# Altium integrated library Analog Devices RF IF Modulators and Demodulators.IntLib: 86 symbols (part 8 of 8)
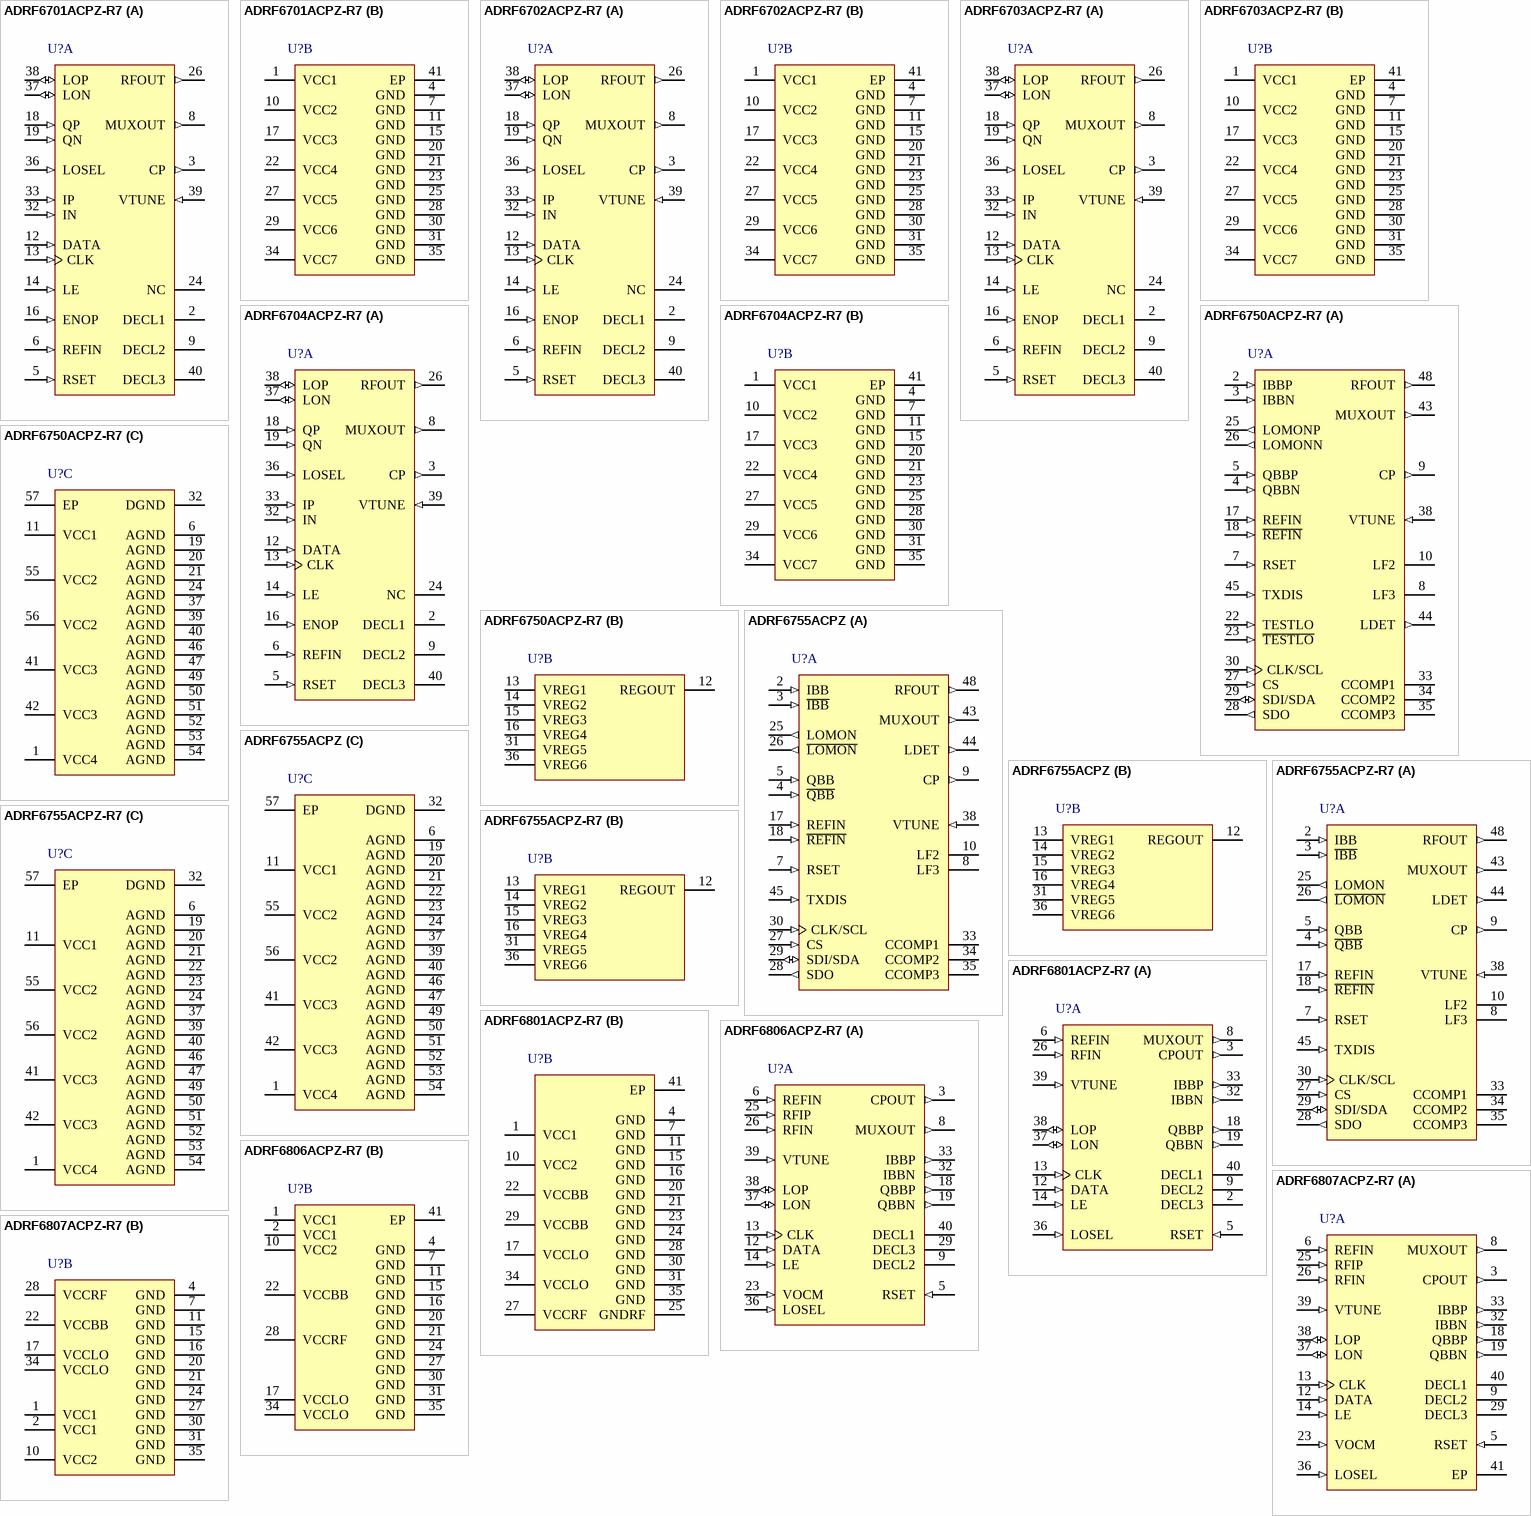
[diagram p12: symbols ADRF6701ACPZ-R7 to ADRF6807ACPZ-R7]

## ADRF6755ACPZ
designator U?
300 MHz to 2310 MHz I/Q Modulator with Integrated Fractional-N PLL and VCO, CP-56-3, Pb-Free, Tray; Min RF Frequency (MHz): 300MHz; Max RF Frequency (MHz): 2.31GHz; IQ Freq (MHz): 250MHz; IIP3 (+dBm): 23dBm; Output P1dB (dBm): 8; DatasheetVersion: RevPrC; PackageVersion: 021606-A; PackageReference: CP-56-3; PackageDescription: 56-Lead Lead Frame Chip Scale Package [LFCSP_VQ]; Code_JEDEC: MO-220-VLLD-2; ComponentLink1Description: Manufacturer URL; ComponentLink1URL: www.analog.com; ComponentLink2Description: Datasheet; ComponentLink2URL: http://www.analog.com/static/imported-files/data_sheets/ADRF6755.pdf; ComponentLink3Description: Package Specification; ComponentLink3URL: http://www.analog.com/static/imported-files/packages/3287850526613CP_56_3.pdf
footprint ADI-CP-56-3_N (QFN, 56-Leads, Body 8x8mm, Pitch 0.5mm, Thermal Pad 4.8x4.8mm, IPC Medium Density)
footprint ADI-CP-56-3_L (QFN, 56-Leads, Body 8x8mm, Pitch 0.5mm, Thermal Pad 4.8x4.8mm, IPC High Density)
footprint ADI-CP-56-3_M (QFN, 56-Leads, Body 8x8mm, Pitch 0.5mm, Thermal Pad 4.8x4.8mm, IPC Low Density)
part A pins: 2 IBB (in) "Differential In-Phase Baseband Inputs. These high impedance inputs must be dc-biased to approximately 500 mV dc and should be driven from a low impedance source. [see datasheet]", 3 ~{IBB} (in) "Differential In-Phase Baseband Inputs. These high impedance inputs must be dc-biased to approximately 500 mV dc and should be driven from a low impedance source. [see datasheet]", 4 ~{QBB} (in) "Differential Quadrature Baseband Inputs. These high impedance inputs must be dc-biased to approximately 500 mV dc and should be driven from a low impedance source. [see datasheet]", 5 QBB (in) "Differential Quadrature Baseband Inputs. These high impedance inputs must be dc-biased to approximately 500 mV dc and should be driven from a low impedance source. [see datasheet]", 7 RSET (in) "Charge Pump Current Set. Connecting a resistor between this pin and ground sets the maximum charge pump output current.", 8 LF3 "No connect pins.", 9 CP (out) "Charge Pump Output. When enabled, this output provides +/-ICP to the external loop filter, which, in turn, drives the internal VCO.", 10 LF2 "No connect pins.", 17 REFIN (in) "Reference Input. This high impedance CMOS input should be ac-coupled.", 18 ~{REFIN} (in) "Reference Input Bar. This pin should be either grounded or ac-coupled to ground.", 25 LOMON (out) "Differential Monitor Outputs. These pins provide a replica of the internal local oscillator frequency (1x LO) at four different power levels: -6 dBm, -12 dBm, -18 dBm, and -24 dBm, approximately. [see datasheet]", 26 ~{LOMON} (out) "Differential Monitor Outputs. These pins provide a replica of the internal local oscillator frequency (1x LO) at four different power levels: -6 dBm, -12 dBm, -18 dBm, and -24 dBm, approximately. [see datasheet]", 27 CS (in) "Chip Select, CMOS Input. When CS is high, the data stored in the shift registers is loaded into one of 31 latches. [see datasheet]", 28 SDO (out) "Serial Data Output for SPI Port. Register states can be read back on the SDO data output line.", 29 SDI/SDA (io) "Serial Data Input for SPI Port/Serial Data Input/Output for I2C Port. In SPI mode, this pin is a high impedance CMOS data input, and data is loaded in an 8-bit word. [see datasheet]", 30 CLK/SCL (in) "Serial Clock Input for SPI/I2C Port. This serial clock is used to clock in the serial data to the registers. This input is a high impedance CMOS input.", 33 CCOMP1 "Internal Compensation Nodes. These pins must be decoupled to ground with a 100 nF capacitor.", 34 CCOMP2 "Internal Compensation Nodes. These pins must be decoupled to ground with a 100 nF capacitor.", 35 CCOMP3 "Internal Compensation Nodes. These pins must be decoupled to ground with a 100 nF capacitor.", 38 VTUNE (in) "Control Input to the VCO. This voltage determines the output frequency and is derived from filtering the CP output voltage.", 43 MUXOUT (out) "Muxout. This output is a test output for diagnostic use only. It should be left unconnected by the customer.", 44 LDET (out) "Lock Detect. This output pin indicates the state of the PLL: a high level indicates a locked condition, whereas a low level indicates a loss of lock condition.", 45 TXDIS (in) "Output Disable. This pin can be used to disable the RF output. Connect to high logic level to disable the output. Connect to low logic level for normal operation.", 48 RFOUT (out) "RF Output. Single-ended, 50  ohm, internally biased RF output. [see datasheet]"
part B pins: 12 REGOUT (power) "3.3 V Output Supply. Drives VREG1, VREG2, VREG3, VREG4, VREG5, and VREG6.", 13 VREG1 (power) "Positive Power Supplies for PLL Synthesizer, VCO, and Serial Port. Connect these pins to REGOUT (3.3 V) and decouple them separately.", 14 VREG2 (power) "Positive Power Supplies for PLL Synthesizer, VCO, and Serial Port. Connect these pins to REGOUT (3.3 V) and decouple them separately.", 15 VREG3 (power) "Positive Power Supplies for PLL Synthesizer, VCO, and Serial Port. Connect these pins to REGOUT (3.3 V) and decouple them separately.", 16 VREG4 (power) "Positive Power Supplies for PLL Synthesizer, VCO, and Serial Port. Connect these pins to REGOUT (3.3 V) and decouple them separately.", 31 VREG5 (power) "Positive Power Supplies for PLL Synthesizer, VCO, and Serial Port. Connect these pins to REGOUT (3.3 V) and decouple them separately.", 36 VREG6 (power) "Positive Power Supplies for PLL Synthesizer, VCO, and Serial Port. Connect these pins to REGOUT (3.3 V) and decouple them separately."
part C pins: 1 VCC4 (power) "Positive Power Supplies for I/Q Modulator. Apply a 5 V power supply to VCC1, which should be decoupled with power supply decoupling capacitors. [see datasheet]", 6 AGND (power) "Analog Ground. Connect to a low impedance ground plane.", 11 VCC1 (power) "Positive Power Supplies for I/Q Modulator. Apply a 5 V power supply to VCC1, which should be decoupled with power supply decoupling capacitors. [see datasheet]", 19 AGND (power) "Analog Ground. Connect to a low impedance ground plane.", 20 AGND (power) "Analog Ground. Connect to a low impedance ground plane.", 21 AGND (power) "Analog Ground. Connect to a low impedance ground plane.", 22 AGND (power) "Analog Ground. Connect to a low impedance ground plane.", 23 AGND (power) "Analog Ground. Connect to a low impedance ground plane.", 24 AGND (power) "Analog Ground. Connect to a low impedance ground plane.", 32 DGND (power) "Digital Ground. Connect to the same low impedance ground plane as the AGND pins.", 37 AGND (power) "Analog Ground. Connect to a low impedance ground plane.", 39 AGND (power) "Analog Ground. Connect to a low impedance ground plane.", 40 AGND (power) "Analog Ground. Connect to a low impedance ground plane.", 41 VCC3 (power) "Positive Power Supplies for I/Q Modulator. Apply a 5 V power supply to VCC1, which should be decoupled with power supply decoupling capacitors. [see datasheet]", 42 VCC3 (power) "Positive Power Supplies for I/Q Modulator. Apply a 5 V power supply to VCC1, which should be decoupled with power supply decoupling capacitors. [see datasheet]", 46 AGND (power) "Analog Ground. Connect to a low impedance ground plane.", 47 AGND (power) "Analog Ground. Connect to a low impedance ground plane.", 49 AGND (power) "Analog Ground. Connect to a low impedance ground plane.", 50 AGND (power) "Analog Ground. Connect to a low impedance ground plane.", 51 AGND (power) "Analog Ground. Connect to a low impedance ground plane.", 52 AGND (power) "Analog Ground. Connect to a low impedance ground plane.", 53 AGND (power) "Analog Ground. Connect to a low impedance ground plane.", 54 AGND (power) "Analog Ground. Connect to a low impedance ground plane.", 55 VCC2 (power) "Positive Power Supplies for I/Q Modulator. Apply a 5 V power supply to VCC1, which should be decoupled with power supply decoupling capacitors. [see datasheet]", 56 VCC2 (power) "Positive Power Supplies for I/Q Modulator. Apply a 5 V power supply to VCC1, which should be decoupled with power supply decoupling capacitors. [see datasheet]", 57 EP (power) "Exposed Paddle. Connect to ground plane via a low impedance path."

## ADRF6755ACPZ-R7
designator U?
300 MHz to 2310 MHz I/Q Modulator with Integrated Fractional-N PLL and VCO, CP-56-3, Pb-Free, Reel; Min RF Frequency (MHz): 300MHz; Max RF Frequency (MHz): 2.31GHz; IQ Freq (MHz): 250MHz; IIP3 (+dBm): 23dBm; Output P1dB (dBm): 8; DatasheetVersion: RevPrC; PackageVersion: 021606-A; PackageReference: CP-56-3; PackageDescription: 56-Lead Lead Frame Chip Scale Package [LFCSP_VQ]; Code_JEDEC: MO-220-VLLD-2; ComponentLink1Description: Manufacturer URL; ComponentLink1URL: www.analog.com; ComponentLink2Description: Datasheet; ComponentLink2URL: http://www.analog.com/static/imported-files/data_sheets/ADRF6755.pdf; ComponentLink3Description: Package Specification; ComponentLink3URL: http://www.analog.com/static/imported-files/packages/3287850526613CP_56_3.pdf
footprint ADI-CP-56-3_N (QFN, 56-Leads, Body 8x8mm, Pitch 0.5mm, Thermal Pad 4.8x4.8mm, IPC Medium Density)
footprint ADI-CP-56-3_L (QFN, 56-Leads, Body 8x8mm, Pitch 0.5mm, Thermal Pad 4.8x4.8mm, IPC High Density)
footprint ADI-CP-56-3_M (QFN, 56-Leads, Body 8x8mm, Pitch 0.5mm, Thermal Pad 4.8x4.8mm, IPC Low Density)
part A pins: 2 IBB (in) "Differential In-Phase Baseband Inputs. These high impedance inputs must be dc-biased to approximately 500 mV dc and should be driven from a low impedance source. [see datasheet]", 3 ~{IBB} (in) "Differential In-Phase Baseband Inputs. These high impedance inputs must be dc-biased to approximately 500 mV dc and should be driven from a low impedance source. [see datasheet]", 4 ~{QBB} (in) "Differential Quadrature Baseband Inputs. These high impedance inputs must be dc-biased to approximately 500 mV dc and should be driven from a low impedance source. [see datasheet]", 5 QBB (in) "Differential Quadrature Baseband Inputs. These high impedance inputs must be dc-biased to approximately 500 mV dc and should be driven from a low impedance source. [see datasheet]", 7 RSET (in) "Charge Pump Current Set. Connecting a resistor between this pin and ground sets the maximum charge pump output current.", 8 LF3 "No connect pins.", 9 CP (out) "Charge Pump Output. When enabled, this output provides +/-ICP to the external loop filter, which, in turn, drives the internal VCO.", 10 LF2 "No connect pins.", 17 REFIN (in) "Reference Input. This high impedance CMOS input should be ac-coupled.", 18 ~{REFIN} (in) "Reference Input Bar. This pin should be either grounded or ac-coupled to ground.", 25 LOMON (out) "Differential Monitor Outputs. These pins provide a replica of the internal local oscillator frequency (1x LO) at four different power levels: -6 dBm, -12 dBm, -18 dBm, and -24 dBm, approximately. [see datasheet]", 26 ~{LOMON} (out) "Differential Monitor Outputs. These pins provide a replica of the internal local oscillator frequency (1x LO) at four different power levels: -6 dBm, -12 dBm, -18 dBm, and -24 dBm, approximately. [see datasheet]", 27 CS (in) "Chip Select, CMOS Input. When CS is high, the data stored in the shift registers is loaded into one of 31 latches. [see datasheet]", 28 SDO (out) "Serial Data Output for SPI Port. Register states can be read back on the SDO data output line.", 29 SDI/SDA (io) "Serial Data Input for SPI Port/Serial Data Input/Output for I2C Port. In SPI mode, this pin is a high impedance CMOS data input, and data is loaded in an 8-bit word. [see datasheet]", 30 CLK/SCL (in) "Serial Clock Input for SPI/I2C Port. This serial clock is used to clock in the serial data to the registers. This input is a high impedance CMOS input.", 33 CCOMP1 "Internal Compensation Nodes. These pins must be decoupled to ground with a 100 nF capacitor.", 34 CCOMP2 "Internal Compensation Nodes. These pins must be decoupled to ground with a 100 nF capacitor.", 35 CCOMP3 "Internal Compensation Nodes. These pins must be decoupled to ground with a 100 nF capacitor.", 38 VTUNE (in) "Control Input to the VCO. This voltage determines the output frequency and is derived from filtering the CP output voltage.", 43 MUXOUT (out) "Muxout. This output is a test output for diagnostic use only. It should be left unconnected by the customer.", 44 LDET (out) "Lock Detect. This output pin indicates the state of the PLL: a high level indicates a locked condition, whereas a low level indicates a loss of lock condition.", 45 TXDIS (in) "Output Disable. This pin can be used to disable the RF output. Connect to high logic level to disable the output. Connect to low logic level for normal operation.", 48 RFOUT (out) "RF Output. Single-ended, 50  ohm, internally biased RF output. [see datasheet]"
part B pins: 12 REGOUT (power) "3.3 V Output Supply. Drives VREG1, VREG2, VREG3, VREG4, VREG5, and VREG6.", 13 VREG1 (power) "Positive Power Supplies for PLL Synthesizer, VCO, and Serial Port. Connect these pins to REGOUT (3.3 V) and decouple them separately.", 14 VREG2 (power) "Positive Power Supplies for PLL Synthesizer, VCO, and Serial Port. Connect these pins to REGOUT (3.3 V) and decouple them separately.", 15 VREG3 (power) "Positive Power Supplies for PLL Synthesizer, VCO, and Serial Port. Connect these pins to REGOUT (3.3 V) and decouple them separately.", 16 VREG4 (power) "Positive Power Supplies for PLL Synthesizer, VCO, and Serial Port. Connect these pins to REGOUT (3.3 V) and decouple them separately.", 31 VREG5 (power) "Positive Power Supplies for PLL Synthesizer, VCO, and Serial Port. Connect these pins to REGOUT (3.3 V) and decouple them separately.", 36 VREG6 (power) "Positive Power Supplies for PLL Synthesizer, VCO, and Serial Port. Connect these pins to REGOUT (3.3 V) and decouple them separately."
part C pins: 1 VCC4 (power) "Positive Power Supplies for I/Q Modulator. Apply a 5 V power supply to VCC1, which should be decoupled with power supply decoupling capacitors. [see datasheet]", 6 AGND (power) "Analog Ground. Connect to a low impedance ground plane.", 11 VCC1 (power) "Positive Power Supplies for I/Q Modulator. Apply a 5 V power supply to VCC1, which should be decoupled with power supply decoupling capacitors. [see datasheet]", 19 AGND (power) "Analog Ground. Connect to a low impedance ground plane.", 20 AGND (power) "Analog Ground. Connect to a low impedance ground plane.", 21 AGND (power) "Analog Ground. Connect to a low impedance ground plane.", 22 AGND (power) "Analog Ground. Connect to a low impedance ground plane.", 23 AGND (power) "Analog Ground. Connect to a low impedance ground plane.", 24 AGND (power) "Analog Ground. Connect to a low impedance ground plane.", 32 DGND (power) "Digital Ground. Connect to the same low impedance ground plane as the AGND pins.", 37 AGND (power) "Analog Ground. Connect to a low impedance ground plane.", 39 AGND (power) "Analog Ground. Connect to a low impedance ground plane.", 40 AGND (power) "Analog Ground. Connect to a low impedance ground plane.", 41 VCC3 (power) "Positive Power Supplies for I/Q Modulator. Apply a 5 V power supply to VCC1, which should be decoupled with power supply decoupling capacitors. [see datasheet]", 42 VCC3 (power) "Positive Power Supplies for I/Q Modulator. Apply a 5 V power supply to VCC1, which should be decoupled with power supply decoupling capacitors. [see datasheet]", 46 AGND (power) "Analog Ground. Connect to a low impedance ground plane.", 47 AGND (power) "Analog Ground. Connect to a low impedance ground plane.", 49 AGND (power) "Analog Ground. Connect to a low impedance ground plane.", 50 AGND (power) "Analog Ground. Connect to a low impedance ground plane.", 51 AGND (power) "Analog Ground. Connect to a low impedance ground plane.", 52 AGND (power) "Analog Ground. Connect to a low impedance ground plane.", 53 AGND (power) "Analog Ground. Connect to a low impedance ground plane.", 54 AGND (power) "Analog Ground. Connect to a low impedance ground plane.", 55 VCC2 (power) "Positive Power Supplies for I/Q Modulator. Apply a 5 V power supply to VCC1, which should be decoupled with power supply decoupling capacitors. [see datasheet]", 56 VCC2 (power) "Positive Power Supplies for I/Q Modulator. Apply a 5 V power supply to VCC1, which should be decoupled with power supply decoupling capacitors. [see datasheet]", 57 EP (power) "Exposed Paddle. Connect to ground plane via a low impedance path."

## ADRF6801ACPZ-R7
designator U?
750 MHz to 1150 MHz Quadrature Demodulator with Fractional-N PLL and VCO, CP-40-1, Pb-Free, 750 Reel; Min RF Frequency (MHz): 750MHz; Max RF Frequency (MHz): 1.15GHz; IQ Freq (MHz): 275MHz; Phase Error (deg): 0.3Deg; Amplitude Error (dB): 50mdB; IIP3 (+dBm): 25dBm; Output P1dB (dBm): 12.5; DatasheetVersion: Rev. 0; PackageVersion: Oct-2006; PackageReference: CP-40-1; PackageDescription: 40-Lead Lead Frame Chip Scale Package [LFCSP_VQ]; Code_JEDEC: MO-220-VJJD-2; ComponentLink1Description: Manufacturer URL; ComponentLink1URL: www.analog.com; ComponentLink2Description: Datasheet; ComponentLink2URL: http://www.analog.com/static/imported-files/data_sheets/ADRF6801.pdf; ComponentLink3Description: Package Specification; ComponentLink3URL: http://www.analog.com/static/imported-files/packages/PKG_PDF/LFCSP(CP)/CP_40_1.pdf
footprint ADI-CP-40-1_N (QFN, 40-Leads, Body 6x6mm, Pitch 0.5mm, Thermal Pad 4.3x4.3mm, IPC Medium Density)
footprint ADI-CP-40-1_L (QFN, 40-Leads, Body 6x6mm, Pitch 0.5mm, Thermal Pad 4.3x4.3mm, IPC High Density)
footprint ADI-CP-40-1_M (QFN, 40-Leads, Body 6x6mm, Pitch 0.5mm, Thermal Pad 4.3x4.3mm, IPC Low Density)
part A pins: 2 DECL3 "Decoupling Node for the 3.3 V LDO. Connect a 0.1 uF capacitor between this pin and ground", 3 CPOUT (out) "Charge Pump Output Pin. Connect this pin to VTUNE through the loop filter", 5 RSET (in) "Charge Pump Current. The nominal charge pump current can be set to 250 uA, 500 uA, 750 uA, or 1 mA using DB10 and DB11 of Register 4 and by setting DB18 to 0 (internal reference current)", 6 REFIN (in) "Reference Input. Nominal input level is 1 V p-p. Input range is 10 MHz to 160 MHz", 8 MUXOUT (out) "Multiplexer Output. This output can be programmed to provide the reference output signal or the lock detect signal. The output is selected by programming the appropriate register", 9 DECL2 "Decoupling Node for 2.5 V LDO. Connect a 0.1 uF capacitor between this pin and ground", 12 DATA (in) "Serial Data Input. The serial data is loaded MSB first with the three LSBs being the control bits", 13 CLK (in) "Serial Clock Input. This serial clock is used to clock in the serial data to the registers. The data is latched into the 24-bit shift register on the CLK rising edge. [see datasheet]", 14 LE (in) "Load Enable.", 18 QBBP (out) "Demodulator Q-Channel Differential Baseband Outputs; Differential Output Impedance of 24 O", 19 QBBN (out) "Demodulator Q-Channel Differential Baseband Outputs; Differential Output Impedance of 24 O", 26 RFIN (in) "Single-Ended, Ground Referenced 50 O, RF Input", 32 IBBN (out) "Demodulator I-Channel Differential Baseband Outputs; Differential Output Impedance of 24 O", 33 IBBP (out) "Demodulator I-Channel Differential Baseband Outputs; Differential Output Impedance of 24 O", 36 LOSEL (in) "LO Select. Connect this pin to ground for the simplest operation and to completely control the LO path and input/output direction from the register SPI programming", 37 LON (io) "Local Oscillator Input/Output. When these pins are used as output pins, a differential frequency divided version of the internal VCO is available on these pins. [see datasheet]", 38 LOP (io) "Local Oscillator Input/Output. When these pins are used as output pins, a differential frequency divided version of the internal VCO is available on these pins. [see datasheet]", 39 VTUNE (in) "VCO Control Voltage Input. This pin is driven by the output of the loop filter. The nominal input voltage range on this pin is 1.0 V to 2.8 V", 40 DECL1 "Connect a 10 uF capacitor between this pin and ground as close to the device as possible because this pin serves as the VCO supply and loop filter reference"
part B pins: 1 VCC1 (power) "The 5 V Power Supply Pin for VCO and PLL (VCC1)", 4 GND (power) "Connect these pins to a low impedance ground plane", 7 GND (power) "Connect these pins to a low impedance ground plane", 10 VCC2 (power) "The 5 V power supply pin for the 2.5 V LDO", 11 GND (power) "Connect these pins to a low impedance ground plane", 15 GND (power) "Connect these pins to a low impedance ground plane", 16 GND (power) "Connect these pins to a low impedance ground plane", 17 VCCLO (power) "The 5 V Power Supply for the LO Path Blocks", 20 GND (power) "Connect these pins to a low impedance ground plane", 21 GND (power) "Connect these pins to a low impedance ground plane", 22 VCCBB (power) "The 5 V Power Supply for the Baseband Output Section of the Demodulator Blocks", 23 GND (power) "Connect these pins to a low impedance ground plane", 24 GND (power) "Connect these pins to a low impedance ground plane", 25 GNDRF (power) "Ground Return for RF Input Balun", 27 VCCRF (power) "The 5 V Power Supply for the RF Input Section of the Demodulator Blocks", 28 GND (power) "Connect these pins to a low impedance ground plane", 29 VCCBB (power) "The 5 V Power Supply for the Baseband Output Section of the Demodulator Blocks", 30 GND (power) "Connect these pins to a low impedance ground plane", 31 GND (power) "Connect these pins to a low impedance ground plane", 34 VCCLO (power) "The 5 V Power Supply for the LO Path Blocks", 35 GND (power) "Connect these pins to a low impedance ground plane", 41 EP (power) "Exposed Paddle. The exposed paddle should be soldered to a low impedance ground plane"

## ADRF6806ACPZ-R7
designator U?
50 MHz to 525 MHz Quadrature Demodulator with Fractional-N PLL and VCO, CP-40-4, Pb-Free, 750 Reel; Min RF Frequency (MHz): 50MHz; Max RF Frequency (MHz): 525MHz; IQ Freq (MHz): 135MHz; Phase Error (deg): 0.5Deg; Amplitude Error (dB): 100mdB; IIP3 (+dBm): 28.5dBm; DatasheetVersion: Rev. A; PackageVersion: 080107-A; PackageReference: CP-40-4; PackageDescription: 40-Lead Lead Frame Chip Scale Package [LFCSP_VQ]; Code_JEDEC: MO-220-VJJD-2; ComponentLink1Description: Manufacturer URL; ComponentLink1URL: www.analog.com; ComponentLink2Description: Datasheet; ComponentLink2URL: http://www.analog.com/static/imported-files/data_sheets/ADRF6806.pdf; ComponentLink3Description: Package Specification; ComponentLink3URL: http://www.analog.com/static/imported-files/packages/5297332792203067151CP_40_4.pdf
footprint ADI-CP-40-4_N (QFN, 40-Leads, Body 6x6mm, Pitch 0.5mm, Thermal Pad 4.3x4.3mm, IPC Medium Density)
footprint ADI-CP-40-4_L (QFN, 40-Leads, Body 6x6mm, Pitch 0.5mm, Thermal Pad 4.3x4.3mm, IPC High Density)
footprint ADI-CP-40-4_M (QFN, 40-Leads, Body 6x6mm, Pitch 0.5mm, Thermal Pad 4.3x4.3mm, IPC Low Density)
part A pins: 3 CPOUT (out) "Charge Pump Output Pin. Connect this pin to VTUNE through the loop filter", 5 RSET (in) "Charge Pump Current. The nominal charge pump current can be set to 250 uA, 500 uA, 750 uA, or 1 mA using DB10 and DB11 of Register 4 and by setting DB18 to 0 (internal reference current)", 6 REFIN (in) "Reference Input. Nominal input level is 1 V p-p. Input range is 9 MHz to 160 MHz", 8 MUXOUT (out) "Multiplexer Output. This output can be programmed to provide the reference output signal or the lock detect signal. The output is selected by programming the appropriate register", 9 DECL2 "Connect a 0.1 uF capacitor between this pin and ground.", 12 DATA (in) "Serial Data Input. The serial data is loaded MSB first with the three LSBs being the control bits", 13 CLK (in) "Serial Clock Input. This serial clock is used to clock in the serial data to the registers. The data is latched into the 24-bit shift register on the CLK rising edge. [see datasheet]", 14 LE (in) "Load Enable.", 18 QBBP (out) "Demodulator Q-Channel Differential Baseband Outputs (Differential Output Impedance of 28 O)", 19 QBBN (out) "Demodulator Q-Channel Differential Baseband Outputs (Differential Output Impedance of 28 O)", 23 VOCM (in) "Baseband Common-Mode Reference Input; 1.65 V nominal. It sets the dc common-mode level of the IBBx and QBBx outputs.", 25 RFIP (in) "Differential 100 O, Internally Biased RF Inputs. These pins must be ac-coupled", 26 RFIN (in) "Differential 100 O, Internally Biased RF Inputs. These pins must be ac-coupled", 29 DECL3 "Connect a 2.2 uF capacitor between this pin and ground", 32 IBBN (out) "Demodulator I-Channel Differential Baseband Outputs (Differential Output Impedance of 28 O)", 33 IBBP (out) "Demodulator I-Channel Differential Baseband Outputs (Differential Output Impedance of 28 O)", 36 LOSEL (in) "LO Select. Connect this pin to ground for the simplest operation and to completely control the LO path and input/output direction from the register SPI programming", 37 LON (io) "Local Oscillator Input/Output. When these pins are used as output pins, a differential frequency divided version of the internal VCO is available on these pins. [see datasheet]", 38 LOP (io) "Local Oscillator Input/Output. When these pins are used as output pins, a differential frequency divided version of the internal VCO is available on these pins. [see datasheet]", 39 VTUNE (in) "VCO Control Voltage Input. This pin is driven by the output of the loop filter. The nominal input voltage range on this pin is 1.0 V to 2.8 V", 40 DECL1 "Connect a 10 uF capacitor between this pin and ground as close to the device as possible because this pin serves as the VCO supply and loop filter reference"
part B pins: 1 VCC1 (power) "The 3.3 V power supply for VCO and PLL", 2 VCC1 (power) "The 3.3 V power supply for VCO and PLL", 4 GND (power) "Connect these pins to a low impedance ground plane", 7 GND (power) "Connect these pins to a low impedance ground plane", 10 VCC2 (power) "The 3.3 V power supply for the 2.5 V LDO", 11 GND (power) "Connect these pins to a low impedance ground plane", 15 GND (power) "Connect these pins to a low impedance ground plane", 16 GND (power) "Connect these pins to a low impedance ground plane", 17 VCCLO (power) "The 3.3 V power supply for the LO path blocks", 20 GND (power) "Connect these pins to a low impedance ground plane", 21 GND (power) "Connect these pins to a low impedance ground plane", 22 VCCBB (power) "The 5 V power supply for the demodulator blocks", 24 GND (power) "Connect these pins to a low impedance ground plane", 27 GND (power) "Connect these pins to a low impedance ground plane", 28 VCCRF (power) "The 5 V power supply for the demodulator blocks", 30 GND (power) "Connect these pins to a low impedance ground plane", 31 GND (power) "Connect these pins to a low impedance ground plane", 34 VCCLO (power) "The 3.3 V power supply for the LO path blocks", 35 GND (power) "Connect these pins to a low impedance ground plane", 41 EP (power) "Exposed Paddle. The exposed paddle should be soldered to a low impedance ground plane"

## ADRF6807ACPZ-R7
designator U?
700 MHz to 1050 MHz Quadrature Demodulator with Fractional-N PLL and VCO, CP-40-4, Pb-Free, 750 Reel; Min RF Frequency (MHz): 700MHz; Max RF Frequency (MHz): 1.05GHz; IQ Freq (MHz): 170MHz; Phase Error (deg): 0.5Deg; Amplitude Error (dB): 100mdB; IIP3 (+dBm): 26.7dBm; DatasheetVersion: Rev. A; PackageVersion: 080107-A; PackageReference: CP-40-4; PackageDescription: 40-Lead Lead Frame Chip Scale Package [LFCSP_VQ]; Code_JEDEC: MO-220-VJJD-2; ComponentLink1Description: Manufacturer URL; ComponentLink1URL: www.analog.com; ComponentLink2Description: Datasheet; ComponentLink2URL: http://www.analog.com/static/imported-files/data_sheets/ADRF6807.pdf; ComponentLink3Description: Package Specification; ComponentLink3URL: http://www.analog.com/static/imported-files/packages/5297332792203067151CP_40_4.pdf
footprint ADI-CP-40-4_N (QFN, 40-Leads, Body 6x6mm, Pitch 0.5mm, Thermal Pad 4.3x4.3mm, IPC Medium Density)
footprint ADI-CP-40-4_L (QFN, 40-Leads, Body 6x6mm, Pitch 0.5mm, Thermal Pad 4.3x4.3mm, IPC High Density)
footprint ADI-CP-40-4_M (QFN, 40-Leads, Body 6x6mm, Pitch 0.5mm, Thermal Pad 4.3x4.3mm, IPC Low Density)
part A pins: 3 CPOUT (out) "Charge Pump Output Pin. Connect this pin to VTUNE through the loop filter.", 5 RSET (in) "Charge Pump Current. The nominal charge pump current can be set to 250 uA, 500 uA, 750 uA, or 1 mA using DB10 and DB11 of Register 4 and by setting DB18 to 0 (internal reference current).", 6 REFIN (in) "Reference Input. Nominal input level is 1 V p-p. Input range is 9 MHz to 160 MHz.", 8 MUXOUT (out) "Multiplexer Output. This output can be programmed to provide the reference output signal or the lock  detect signal. The output is selected by programming the appropriate register.", 9 DECL2 "Connect a 0.1 uF capacitor between this pin and ground.", 12 DATA (in) "Serial Data Input. The serial data is loaded MSB first with the three LSBs being the control bits.", 13 CLK (in) "Serial Clock Input. This serial clock is used to clock in the serial data to the registers.", 14 LE (in) "#VALUE!", 18 QBBP (out) "Demodulator Q-Channel Differential Baseband Outputs (Differential Output Impedance of 28 O).", 19 QBBN (out) "Demodulator Q-Channel Differential Baseband Outputs (Differential Output Impedance of 28 O).", 23 VOCM (in) "Baseband Common-Mode Reference Input; 1.65 V Nominal. It sets the dc common-mode level of the IBBx and QBBx outputs.", 25 RFIP (in) "Differential 100 ohm, Internally Biased RF Inputs. These pins must be ac-coupled.", 26 RFIN (in) "Differential 100 ohm, Internally Biased RF Inputs. These pins must be ac-coupled.", 29 DECL3 "Connect a 2.2 uF capacitor between this pin and ground.", 32 IBBN (out) "Demodulator I-Channel Differential Baseband Outputs (Differential Output Impedance of 28 O).", 33 IBBP (out) "Demodulator I-Channel Differential Baseband Outputs (Differential Output Impedance of 28 O).", 36 LOSEL (in) "LO Select. Connect this pin to ground for the simplest operation and to completely control the LO path and input/output direction from the register programming of the SPI.?see  datasheet?", 37 LON (io) "Local Oscillator Input/Output (Differential Output Impedance of 28 O).?see  datasheet?", 38 LOP (io) "Local Oscillator Input/Output (Differential Output Impedance of 28 O).?see  datasheet?", 39 VTUNE (in) "VCO Control Voltage Input. This pin is driven by the output of the loop filter. The nominal input voltage range on this pin is 1.0 V to 2.8 V", 40 DECL1 "Connect a 10 uF capacitor between this pin and ground as close to the device as possible because this pin serves as the VCO supply and loop filter reference.", 41 EP (power) "Exposed Paddle. The exposed paddle should be soldered to a low impedance ground plane."
part B pins: 1 VCC1 (power) "The 3.3 V Power Supply for VCO and PLL.", 2 VCC1 (power) "The 3.3 V Power Supply for VCO and PLL.", 4 GND (power) "Ground. Connect these pins to a low impedance ground plane.", 7 GND (power) "Ground. Connect these pins to a low impedance ground plane.", 10 VCC2 (power) "3.3 V Power Supply for 2.5 V LDO.", 11 GND (power) "Ground. Connect these pins to a low impedance ground plane.", 15 GND (power) "Ground. Connect these pins to a low impedance ground plane.", 16 GND (power) "Ground. Connect these pins to a low impedance ground plane.", 17 VCCLO (power) "3.3 V Power Supply for LO Path Blocks.", 20 GND (power) "Ground. Connect these pins to a low impedance ground plane.", 21 GND (power) "Ground. Connect these pins to a low impedance ground plane.", 22 VCCBB (power) "5 V Power Supply for Demodulator Blocks.", 24 GND (power) "Ground. Connect these pins to a low impedance ground plane.", 27 GND (power) "Ground. Connect these pins to a low impedance ground plane.", 28 VCCRF (power) "5 V Power Supply for Demodulator Blocks.", 30 GND (power) "Ground. Connect these pins to a low impedance ground plane.", 31 GND (power) "Ground. Connect these pins to a low impedance ground plane.", 34 VCCLO (power) "3.3 V Power Supply for LO Path Blocks.", 35 GND (power) "Ground. Connect these pins to a low impedance ground plane."

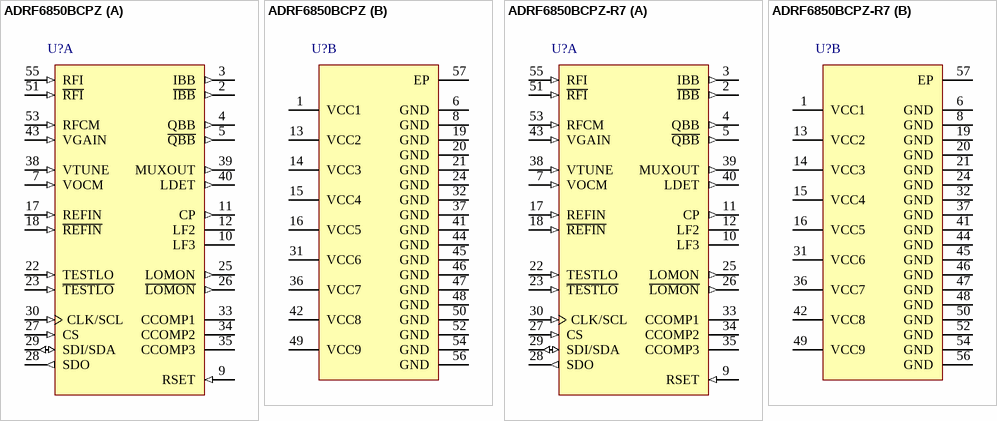
[diagram p5: symbols ADRF6850BCPZ to ADRF6850BCPZ-R7]

## ADRF6850BCPZ
designator U?
100 MHz to 1000 MHz Integrated Broadband Receiver, CP-56-5, Pb-Free, 260 Tray; IQ Freq (MHz): 250MHz; Phase Error (deg): 0.25Deg; Amplitude Error (dB): 100mdB; VGA Range (dB): 60dB; IIP3 (+dBm): 22.5dBm; Output P1dB (dBm): 12; DatasheetVersion: Rev. 0; PackageVersion: 072709-A; PackageReference: CP-56-5; PackageDescription: 56-Lead Lead Frame Chip Scale Package [LFCSP_VQ]; Code_JEDEC: MO-220-VLLD-2; ComponentLink1Description: Manufacturer URL; ComponentLink1URL: www.analog.com; ComponentLink2Description: Datasheet; ComponentLink2URL: http://www.analog.com/static/imported-files/data_sheets/ADRF6850.pdf; ComponentLink3Description: Package Specification; ComponentLink3URL: http://www.analog.com/static/imported-files/packages/PKG_PDF/LFCSP(CP)/CP-56/CP_56_5.pdf
footprint ADI-CP-56-5_N (QFN, 56-Leads, Body 8x8mm, Pitch 0.5mm, Thermal Pad 5x5mm, IPC Medium Density)
footprint ADI-CP-56-5_L (QFN, 56-Leads, Body 8x8mm, Pitch 0.5mm, Thermal Pad 5x5mm, IPC High Density)
footprint ADI-CP-56-5_M (QFN, 56-Leads, Body 8x8mm, Pitch 0.5mm, Thermal Pad 5x5mm, IPC Low Density)
part A pins: 2 ~{IBB} (out) "Differential In-Phase and Quadrature Baseband Outputs. These low impedance outputs can drive 2.5 V p-p into 100 O differential loads", 3 IBB (out) "Differential In-Phase and Quadrature Baseband Outputs. These low impedance outputs can drive 2.5 V p-p into 100 O differential loads", 4 QBB (out) "Differential In-Phase and Quadrature Baseband Outputs. These low impedance outputs can drive 2.5 V p-p into 100 O differential loads", 5 ~{QBB} (out) "Differential In-Phase and Quadrature Baseband Outputs. These low impedance outputs can drive 2.5 V p-p into 100 O differential loads", 7 VOCM (in) "Baseband Common-Mode Voltage Input. When ac coupling the baseband output pins, ground VOCM. There is an option to apply an external voltage, which may be relevant when dc coupling the baseband output pins. [see datasheet]", 9 RSET (in) "Charge Pump Current Set. Connecting a resistor between this pin and ground sets the maximum charge pump output current", 10 LF3 "Extra Loop Filter Pins for Fastlock. Use these pins to reduce lock time", 11 CP (out) "Charge Pump Output. When enabled, this provides +/-ICP to the external loop filter, which in turn, drives the internal VCO", 12 LF2 "Extra Loop Filter Pins for Fastlock. Use these pins to reduce lock time", 17 REFIN (in) "Reference Input. AC couple this high impedance CMOS input", 18 ~{REFIN} (in) "Reference Input Bar. Ground this pin", 22 TESTLO (in) "Differential Test Inputs. For internal use only. These pins should be grounded", 23 ~{TESTLO} (in) "Differential Test Inputs. For internal use only. These pins should be grounded", 25 LOMON (out) "Differential Monitor Outputs. These pins provide a replica of the internal local oscillator frequency (1x LO) at four different power levels: -6 dBm, -12 dBm, -18 dBm, and -24 dBm, approximately. [see datasheet]", 26 ~{LOMON} (out) "Differential Monitor Outputs. These pins provide a replica of the internal local oscillator frequency (1x LO) at four different power levels: -6 dBm, -12 dBm, -18 dBm, and -24 dBm, approximately. [see datasheet]", 27 CS (in) "Chip Select. CMOS input. When CS is high, the data stored in the shift registers is loaded into one of the 31 registers. [see datasheet]", 28 SDO (out) "Serial Data Output for SPI Port. Register states can be read back on the SDO data output line in an 8-bit word", 29 SDI/SDA (io) "Serial Data Input for SPI Port, Serial Data Input/Output for I2C Port. In SPI mode. This input is a high impedance CMOS data input, and data is loaded in an 8-bit word. [see datasheet]", 30 CLK/SCL (in) "Serial Clock Input for SPI/I2C Port. This serial clock is used to clock in the serial data to the registers. This input is a high impedance CMOS input", 33 CCOMP1 "Internal Compensation Node. This pin must be decoupled to ground with a 100 nF capacitor", 34 CCOMP2 "Internal Compensation Node. This pin must be decoupled to ground with a 100 nF capacitor", 35 CCOMP3 "Internal Compensation Node. This pin must be decoupled to ground with a 100 nF capacitor", 38 VTUNE (in) "Control Input to the VCO. This voltage determines the output frequency and is derived from filtering the CP output voltage", 39 MUXOUT (out) "Muxout. This output is a test output for diagnostic use only. Allow this pin to remain open circuit", 40 LDET (out) "Lock Detect. This pin provides an active high output when the PLL frequency is locked. The lock detect timing is controlled by Register CR14 (Bit 7) and Register CR23 (Bit 3)", 43 VGAIN (in) "VGA Gain Input. Drive this pin by a voltage in the range from 0 V to 1.5 V. This voltage controls the gain of the VGA. A 0 V input sets the VGA gain to 0 dB, whereas a 1.5 V input sets the VGA gain to +60 dB if the VGA Gain Mode Polarity Bit CR30, Bit 2,", 51 ~{RFI} (in) "RF Inputs. 50 ohm internally biased RF inputs. For single-ended operation, RFI must be ac-coupled to the source, and R\F\I\ must be ac-coupled to the ground plane", 53 RFCM (in) "RF Input Common Mode. Connect to R\F\I\ when driving the input in single-ended mode. When driving the input differentially using a balun, connect this pin to the common terminal of the output coil of the balun. [see datasheet]", 55 RFI (in) "RF Inputs. 50 ohm internally biased RF inputs. For single-ended operation, RFI must be ac-coupled to the source, and R\F\I\ must be ac-coupled to the ground plane"
part B pins: 1 VCC1 (power) "Positive Power Supplies. Apply a 3.3 V power supply to all VCCx pins. Decouple each pin with a power supply decoupling capacitor.", 6 GND (power) "Analog Ground. Connect to a low impedance ground plane", 8 GND (power) "Analog Ground. Connect to a low impedance ground plane", 13 VCC2 (power) "Positive Power Supplies. Apply a 3.3 V power supply to all VCCx pins. Decouple each pin with a power supply decoupling capacitor", 14 VCC3 (power) "Positive Power Supplies. Apply a 3.3 V power supply to all VCCx pins. Decouple each pin with a power supply decoupling capacitor", 15 VCC4 (power) "Positive Power Supplies. Apply a 3.3 V power supply to all VCCx pins. Decouple each pin with a power supply decoupling capacitor", 16 VCC5 (power) "Positive Power Supplies. Apply a 3.3 V power supply to all VCCx pins. Decouple each pin with a power supply decoupling capacitor", 19 GND (power) "Analog Ground. Connect to a low impedance ground plane", 20 GND (power) "Analog Ground. Connect to a low impedance ground plane", 21 GND (power) "Analog Ground. Connect to a low impedance ground plane", 24 GND (power) "Analog Ground. Connect to a low impedance ground plane", 31 VCC6 (power) "Positive Power Supplies. Apply a 3.3 V power supply to all VCCx pins. Decouple each pin with a power supply decoupling capacitor", 32 GND (power) "Analog Ground. Connect to a low impedance ground plane", 36 VCC7 (power) "Positive Power Supplies. Apply a 3.3 V power supply to all VCCx pins. Decouple each pin with a power supply decoupling capacitor", 37 GND (power) "Analog Ground. Connect to a low impedance ground plane", 41 GND (power) "Analog Ground. Connect to a low impedance ground plane", 42 VCC8 (power) "Positive Power Supplies. Apply a 3.3 V power supply to all VCCx pins. Decouple each pin with a power supply decoupling capacitor", 44 GND (power) "Analog Ground. Connect to a low impedance ground plane", 45 GND (power) "Analog Ground. Connect to a low impedance ground plane", 46 GND (power) "Analog Ground. Connect to a low impedance ground plane", 47 GND (power) "Analog Ground. Connect to a low impedance ground plane", 48 GND (power) "Analog Ground. Connect to a low impedance ground plane", 49 VCC9 (power) "Positive Power Supplies. Apply a 3.3 V power supply to all VCCx pins. Decouple each pin with a power supply decoupling capacitor", 50 GND (power) "Analog Ground. Connect to a low impedance ground plane", 52 GND (power) "Analog Ground. Connect to a low impedance ground plane", 54 GND (power) "Analog Ground. Connect to a low impedance ground plane", 56 GND (power) "Analog Ground. Connect to a low impedance ground plane", 57 EP (power) "Exposed Paddle. Connect the exposed pad to the ground plane via a low impedance path"

## ADRF6850BCPZ-R7
designator U?
100 MHz to 1000 MHz Integrated Broadband Receiver, CP-56-5, Pb-Free, 750 Reel; IQ Freq (MHz): 250MHz; Phase Error (deg): 0.25Deg; Amplitude Error (dB): 100mdB; VGA Range (dB): 60dB; IIP3 (+dBm): 22.5dBm; Output P1dB (dBm): 12; DatasheetVersion: Rev. 0; PackageVersion: 072709-A; PackageReference: CP-56-5; PackageDescription: 56-Lead Lead Frame Chip Scale Package [LFCSP_VQ]; Code_JEDEC: MO-220-VLLD-2; ComponentLink1Description: Manufacturer URL; ComponentLink1URL: www.analog.com; ComponentLink2Description: Datasheet; ComponentLink2URL: http://www.analog.com/static/imported-files/data_sheets/ADRF6850.pdf; ComponentLink3Description: Package Specification; ComponentLink3URL: http://www.analog.com/static/imported-files/packages/PKG_PDF/LFCSP(CP)/CP-56/CP_56_5.pdf
footprint ADI-CP-56-5_N (QFN, 56-Leads, Body 8x8mm, Pitch 0.5mm, Thermal Pad 5x5mm, IPC Medium Density)
footprint ADI-CP-56-5_L (QFN, 56-Leads, Body 8x8mm, Pitch 0.5mm, Thermal Pad 5x5mm, IPC High Density)
footprint ADI-CP-56-5_M (QFN, 56-Leads, Body 8x8mm, Pitch 0.5mm, Thermal Pad 5x5mm, IPC Low Density)
part A pins: 2 ~{IBB} (out) "Differential In-Phase and Quadrature Baseband Outputs. These low impedance outputs can drive 2.5 V p-p into 100 O differential loads", 3 IBB (out) "Differential In-Phase and Quadrature Baseband Outputs. These low impedance outputs can drive 2.5 V p-p into 100 O differential loads", 4 QBB (out) "Differential In-Phase and Quadrature Baseband Outputs. These low impedance outputs can drive 2.5 V p-p into 100 O differential loads", 5 ~{QBB} (out) "Differential In-Phase and Quadrature Baseband Outputs. These low impedance outputs can drive 2.5 V p-p into 100 O differential loads", 7 VOCM (in) "Baseband Common-Mode Voltage Input. When ac coupling the baseband output pins, ground VOCM. There is an option to apply an external voltage, which may be relevant when dc coupling the baseband output pins. [see datasheet]", 9 RSET (in) "Charge Pump Current Set. Connecting a resistor between this pin and ground sets the maximum charge pump output current", 10 LF3 "Extra Loop Filter Pins for Fastlock. Use these pins to reduce lock time", 11 CP (out) "Charge Pump Output. When enabled, this provides +/-ICP to the external loop filter, which in turn, drives the internal VCO", 12 LF2 "Extra Loop Filter Pins for Fastlock. Use these pins to reduce lock time", 17 REFIN (in) "Reference Input. AC couple this high impedance CMOS input", 18 ~{REFIN} (in) "Reference Input Bar. Ground this pin", 22 TESTLO (in) "Differential Test Inputs. For internal use only. These pins should be grounded", 23 ~{TESTLO} (in) "Differential Test Inputs. For internal use only. These pins should be grounded", 25 LOMON (out) "Differential Monitor Outputs. These pins provide a replica of the internal local oscillator frequency (1x LO) at four different power levels: -6 dBm, -12 dBm, -18 dBm, and -24 dBm, approximately. [see datasheet]", 26 ~{LOMON} (out) "Differential Monitor Outputs. These pins provide a replica of the internal local oscillator frequency (1x LO) at four different power levels: -6 dBm, -12 dBm, -18 dBm, and -24 dBm, approximately. [see datasheet]", 27 CS (in) "Chip Select. CMOS input. When CS is high, the data stored in the shift registers is loaded into one of the 31 registers. [see datasheet]", 28 SDO (out) "Serial Data Output for SPI Port. Register states can be read back on the SDO data output line in an 8-bit word", 29 SDI/SDA (io) "Serial Data Input for SPI Port, Serial Data Input/Output for I2C Port. In SPI mode. This input is a high impedance CMOS data input, and data is loaded in an 8-bit word. [see datasheet]", 30 CLK/SCL (in) "Serial Clock Input for SPI/I2C Port. This serial clock is used to clock in the serial data to the registers. This input is a high impedance CMOS input", 33 CCOMP1 "Internal Compensation Node. This pin must be decoupled to ground with a 100 nF capacitor", 34 CCOMP2 "Internal Compensation Node. This pin must be decoupled to ground with a 100 nF capacitor", 35 CCOMP3 "Internal Compensation Node. This pin must be decoupled to ground with a 100 nF capacitor", 38 VTUNE (in) "Control Input to the VCO. This voltage determines the output frequency and is derived from filtering the CP output voltage", 39 MUXOUT (out) "Muxout. This output is a test output for diagnostic use only. Allow this pin to remain open circuit", 40 LDET (out) "Lock Detect. This pin provides an active high output when the PLL frequency is locked. The lock detect timing is controlled by Register CR14 (Bit 7) and Register CR23 (Bit 3)", 43 VGAIN (in) "VGA Gain Input. Drive this pin by a voltage in the range from 0 V to 1.5 V. This voltage controls the gain of the VGA. A 0 V input sets the VGA gain to 0 dB, whereas a 1.5 V input sets the VGA gain to +60 dB if the VGA Gain Mode Polarity Bit CR30, Bit 2,", 51 ~{RFI} (in) "RF Inputs. 50 ohm internally biased RF inputs. For single-ended operation, RFI must be ac-coupled to the source, and R\F\I\ must be ac-coupled to the ground plane", 53 RFCM (in) "RF Input Common Mode. Connect to R\F\I\ when driving the input in single-ended mode. When driving the input differentially using a balun, connect this pin to the common terminal of the output coil of the balun. [see datasheet]", 55 RFI (in) "RF Inputs. 50 ohm internally biased RF inputs. For single-ended operation, RFI must be ac-coupled to the source, and R\F\I\ must be ac-coupled to the ground plane"
part B pins: 1 VCC1 (power) "Positive Power Supplies. Apply a 3.3 V power supply to all VCCx pins. Decouple each pin with a power supply decoupling capacitor.", 6 GND (power) "Analog Ground. Connect to a low impedance ground plane", 8 GND (power) "Analog Ground. Connect to a low impedance ground plane", 13 VCC2 (power) "Positive Power Supplies. Apply a 3.3 V power supply to all VCCx pins. Decouple each pin with a power supply decoupling capacitor", 14 VCC3 (power) "Positive Power Supplies. Apply a 3.3 V power supply to all VCCx pins. Decouple each pin with a power supply decoupling capacitor", 15 VCC4 (power) "Positive Power Supplies. Apply a 3.3 V power supply to all VCCx pins. Decouple each pin with a power supply decoupling capacitor", 16 VCC5 (power) "Positive Power Supplies. Apply a 3.3 V power supply to all VCCx pins. Decouple each pin with a power supply decoupling capacitor", 19 GND (power) "Analog Ground. Connect to a low impedance ground plane", 20 GND (power) "Analog Ground. Connect to a low impedance ground plane", 21 GND (power) "Analog Ground. Connect to a low impedance ground plane", 24 GND (power) "Analog Ground. Connect to a low impedance ground plane", 31 VCC6 (power) "Positive Power Supplies. Apply a 3.3 V power supply to all VCCx pins. Decouple each pin with a power supply decoupling capacitor", 32 GND (power) "Analog Ground. Connect to a low impedance ground plane", 36 VCC7 (power) "Positive Power Supplies. Apply a 3.3 V power supply to all VCCx pins. Decouple each pin with a power supply decoupling capacitor", 37 GND (power) "Analog Ground. Connect to a low impedance ground plane", 41 GND (power) "Analog Ground. Connect to a low impedance ground plane", 42 VCC8 (power) "Positive Power Supplies. Apply a 3.3 V power supply to all VCCx pins. Decouple each pin with a power supply decoupling capacitor", 44 GND (power) "Analog Ground. Connect to a low impedance ground plane", 45 GND (power) "Analog Ground. Connect to a low impedance ground plane", 46 GND (power) "Analog Ground. Connect to a low impedance ground plane", 47 GND (power) "Analog Ground. Connect to a low impedance ground plane", 48 GND (power) "Analog Ground. Connect to a low impedance ground plane", 49 VCC9 (power) "Positive Power Supplies. Apply a 3.3 V power supply to all VCCx pins. Decouple each pin with a power supply decoupling capacitor", 50 GND (power) "Analog Ground. Connect to a low impedance ground plane", 52 GND (power) "Analog Ground. Connect to a low impedance ground plane", 54 GND (power) "Analog Ground. Connect to a low impedance ground plane", 56 GND (power) "Analog Ground. Connect to a low impedance ground plane", 57 EP (power) "Exposed Paddle. Connect the exposed pad to the ground plane via a low impedance path"